# EAGLE library part ESP-WROOM-32 (library ESP-WROOM-32)
Module: combo; GPIO, I2C x2, I2S x2, SDIO, SPI x3, UART x3; 19.5dBm
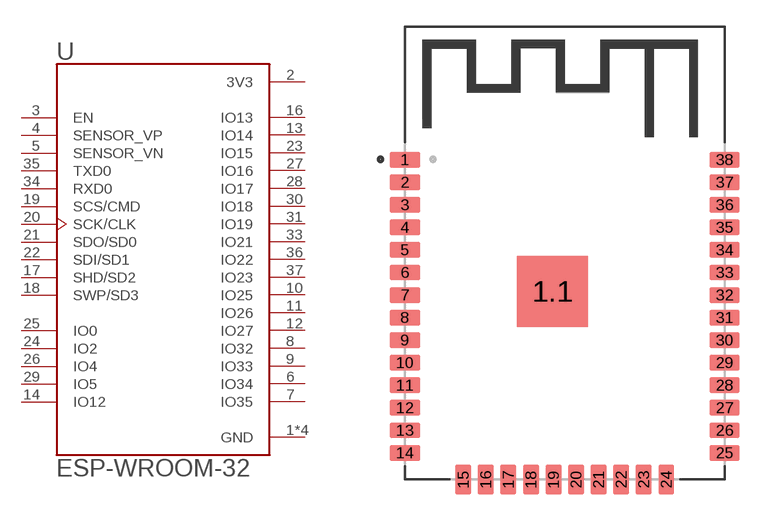
[diagram p0: symbol with the pads of MODULE_ESP-WROOM-32; footprint MODULE_ESP-WROOM-32]

Designator prefix U

## ESP-WROOM-32 (Availability: Unavailable; Description: Module: combo; GPIO, I2C x2, I2S x2, SDIO, SPI x3, UART x3; 19.5dBm; MF: Olimex LTD; MP: ESP-WROOM-32; Package: Module Olimex LTD; Price: None)  [MODULE_ESP-WROOM-32]
1  GND  pwr
1.1  GND  pwr
2  3V3  pwr
3  EN  in
4  SENSOR_VP  in
5  SENSOR_VN  in
6  IO34
7  IO35
8  IO32
9  IO33
10  IO25
11  IO26
12  IO27
13  IO14
14  IO12
15  GND  pwr
16  IO13
17  SHD/SD2
18  SWP/SD3
19  SCS/CMD
20  SCK/CLK
21  SDO/SD0
22  SDI/SD1
23  IO15
24  IO2
25  IO0
26  IO4
27  IO16
28  IO17
29  IO5
30  IO18
31  IO19
33  IO21
34  RXD0
35  TXD0
36  IO22
37  IO23
38  GND  pwr

## Footprint MODULE_ESP-WROOM-32 (pad centres in mm)
smd 1.7 x 0.9: 1 -9,8.255; 2 -9,6.985; 3 -9,5.715; 4 -9,4.445; 5 -9,3.175; 6 -9,1.905; 7 -9,0.635; 8 -9,-0.635; 9 -9,-1.905; 10 -9,-3.175; 11 -9,-4.445; 12 -9,-5.715; 13 -9,-6.985; 14 -9,-8.255; 25 9,-8.255; 26 9,-6.985; 27 9,-5.715; 28 9,-4.445; 29 9,-3.175; 30 9,-1.905; 31 9,-0.635; 32 9,0.635; 33 9,1.905; 34 9,3.175; 35 9,4.445; 36 9,5.715; 37 9,6.985; 38 9,8.255
smd 4 x 4: 1.1 -0.7,0.845
smd 0.9 x 1.7: 15 -5.715,-9.755; 16 -4.445,-9.755; 17 -3.175,-9.755; 18 -1.905,-9.755; 19 -0.635,-9.755; 20 0.635,-9.755; 21 1.905,-9.755; 22 3.175,-9.755; 23 4.445,-9.755; 24 5.715,-9.755